# Altium schematic symbol library Keypadmacro.SchLib: 16 symbols
Pins are listed as number, name and electrical type; pins without a type are passive.

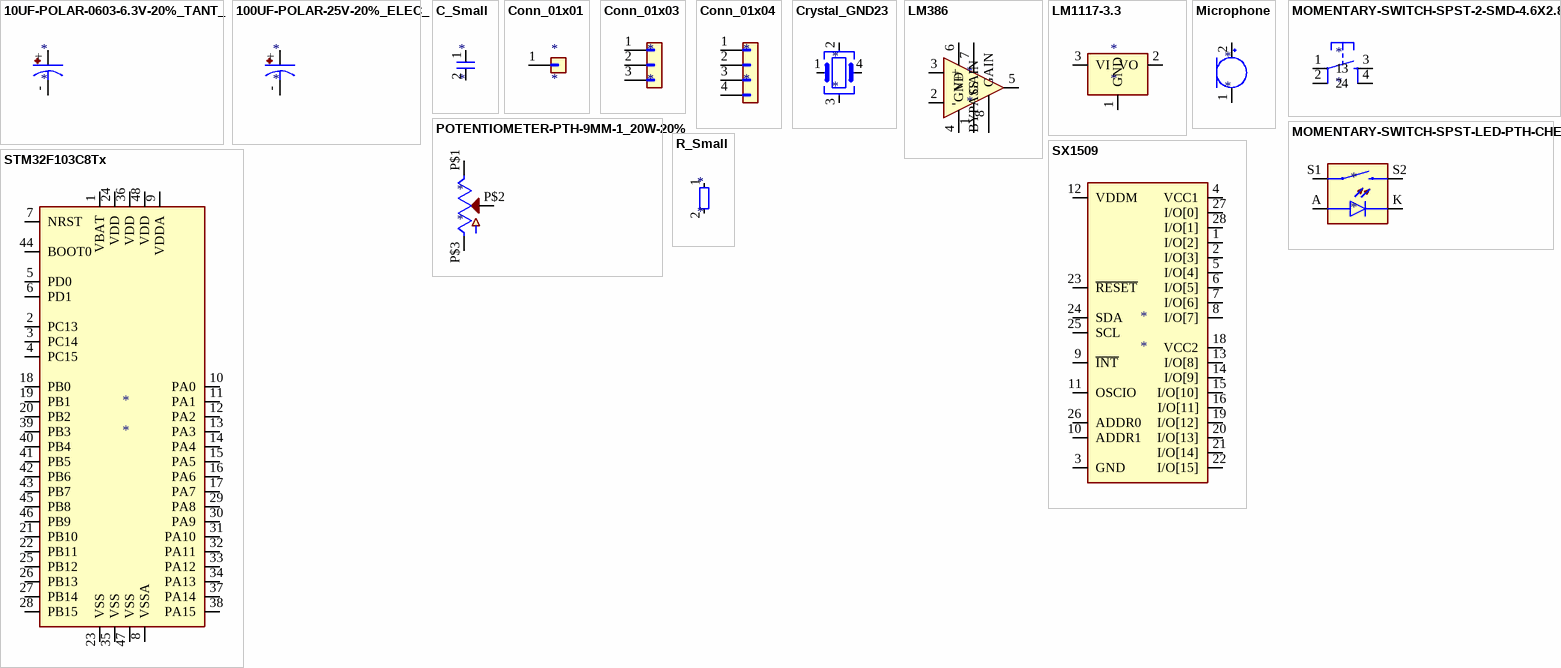
[diagram p0: symbols 10UF-POLAR-0603-6.3V-20%_TANT_ to SX1509]

## 10UF-POLAR-0603-6.3V-20%_TANT_
designator *
pins: +, -

## 100UF-POLAR-25V-20%_ELEC_
designator *
pins: +, -

## C_Small
designator *
pins: 1, 2

## Conn_01x01
designator *
pins: 1 Pin_1

## Conn_01x03
designator *
pins: 1 Pin_1, 2 Pin_2, 3 Pin_3

## Conn_01x04
designator *
pins: 1 Pin_1, 2 Pin_2, 3 Pin_3, 4 Pin_4

## Crystal_GND23
designator *
pins: 1, 2, 3, 4

## LM386
designator *
pins: 1 GAIN, 2 -, 3 +, 4 GND, 5, 6 V+, 7 BYPASS, 8 GAIN

## LM1117-3.3
designator *
pins: 1 GND, 2 VO, 3 VI

## Microphone
designator *
pins: 1 -, 2 +

## MOMENTARY-SWITCH-SPST-2-SMD-4.6X2.8MM
designator *
pins: 1, 2, 3, 4

## MOMENTARY-SWITCH-SPST-LED-PTH-CHERRY
designator *
pins: A, K C, S1 1, S2 2

## POTENTIOMETER-PTH-9MM-1_20W-20%
designator *
pins: P$1 E, P$2 S, P$3 A

## R_Small
designator *
pins: 1, 2

## STM32F103C8Tx
designator *
pins: 1 VBAT, 2 PC13, 3 PC14, 4 PC15, 5 PD0, 6 PD1, 7 NRST, 8 VSSA, 9 VDDA, 10 PA0, 11 PA1, 12 PA2, 13 PA3, 14 PA4, 15 PA5, 16 PA6, 17 PA7, 18 PB0, 19 PB1, 20 PB2, 21 PB10, 22 PB11, 23 VSS, 24 VDD, 25 PB12, 26 PB13, 27 PB14, 28 PB15, 29 PA8, 30 PA9, 31 PA10, 32 PA11, 33 PA12, 34 PA13, 35 VSS, 36 VDD, 37 PA14, 38 PA15, 39 PB3, 40 PB4, 41 PB5, 42 PB6, 43 PB7, 44 BOOT0, 45 PB8, 46 PB9, 47 VSS, 48 VDD

## SX1509
designator *
pins: 1 I/O[2], 2 I/O[3], 3 GND, 4 VCC1, 5 I/O[4], 6 I/O[5], 7 I/O[6], 8 I/O[7], 9 ~{INT}, 10 ADDR1, 11 OSCIO, 12 VDDM, 13 I/O[8], 14 I/O[9], 15 I/O[10], 16 I/O[11], 17 GND hidden, 18 VCC2, 19 I/O[12], 20 I/O[13], 21 I/O[14], 22 I/O[15], 23 ~{RESET}, 24 SDA, 25 SCL, 26 ADDR0, 27 I/O[0], 28 I/O[1], 29 GND hidden